# Altium footprint library DRIVER MOTION PAN.PcbLib: 34 footprints (part 3 of 3)
Each footprint in its own frame and in the unit in brackets; x right, y up, seen from the top. Pads: shape width x height; smd on the part's side, far side on the other; paste and mask are expansions set on the pad; w line width, h text height; cw(c..) or ccw(c..) is an arc to the next point about the centre after c.
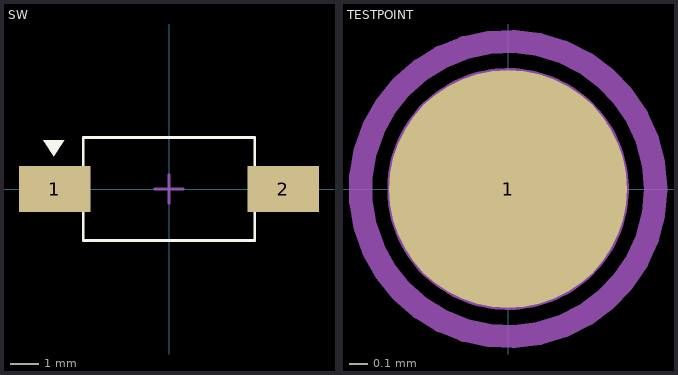
[diagram p2: the footprints below, top view; thin cyan lines are the x and y axes]

## SW [mm] "SWITCH TACTILE SPST-NO 0.05A 12V"
height 2.54
pads (2):
  rect 2.5x1.6 smd: 1(-4,0) 2(4,0)
Top Overlay:
  region: -3.667,1.7 -4.4,1.7 -4.033,1.15
  lines w0.1: -3,-1.8 3,-1.8 3,1.8 -3,1.8 -3,-1.8
Mechanical 15:
  lines w0.1: -0.5,0 0.5,0 ; 0,-0.5 0,0.5
3D body "User Library-Tactile switch.step": height 4.3, standoff 0, extent -5,-1.8 5,1.7

## TESTPOINT [mm] "Test Point"
height 2.54
pads (1):
  round 1.27 smd mask+0.05: 1(0,0)
Mechanical 13:
  circle w0.05: c0,0 r0.75
Mechanical 15:
  circle w0.1: c0,0 r0.8
Mechanical 16:
  circle w0.65: c0,0 r0.32